# EAGLE library part TLE5009 (library EW_sensors)
GMR-Based (Giant Magneto Resistance) Angular Sensor Source: Infineon, TLE5009_FDS_Rev.1.1.pdf
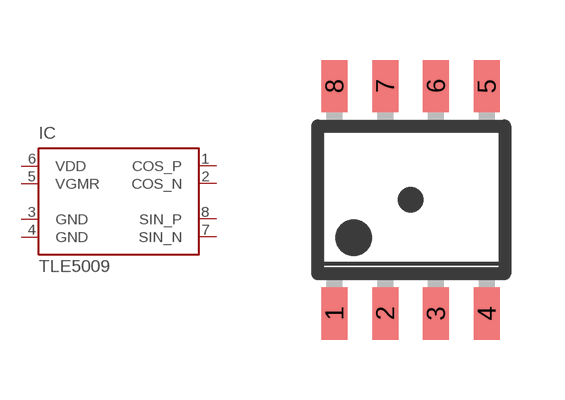
[diagram p48: symbol with the pads of PG-DSO-8; footprint PG-DSO-8]

Designator prefix IC

## TLE5009-E1000, TLE5009-E1010, TLE5009-E2000, TLE5009-E2010  [PG-DSO-8]
1  COS_P  out
2  COS_N  out
3  GND  pwr
4  GND  pwr
5  VGMR  pas
6  VDD  pwr
7  SIN_N  out
8  SIN_P  out

## Footprint PG-DSO-8 (pad centres in mm)
PG-DSO8 Source: TLE5009_FDS_Rev.1.1.pdf
smd 0.65 x 1.31: 1 -1.905,-2.845; 2 -0.635,-2.845; 3 0.635,-2.845; 4 1.905,-2.845; 5 1.905,2.845; 6 0.635,2.845; 7 -0.635,2.845; 8 -1.905,2.845